# EAGLE library part STM32F405_64 (library Lysenko_Eagle_Lib)
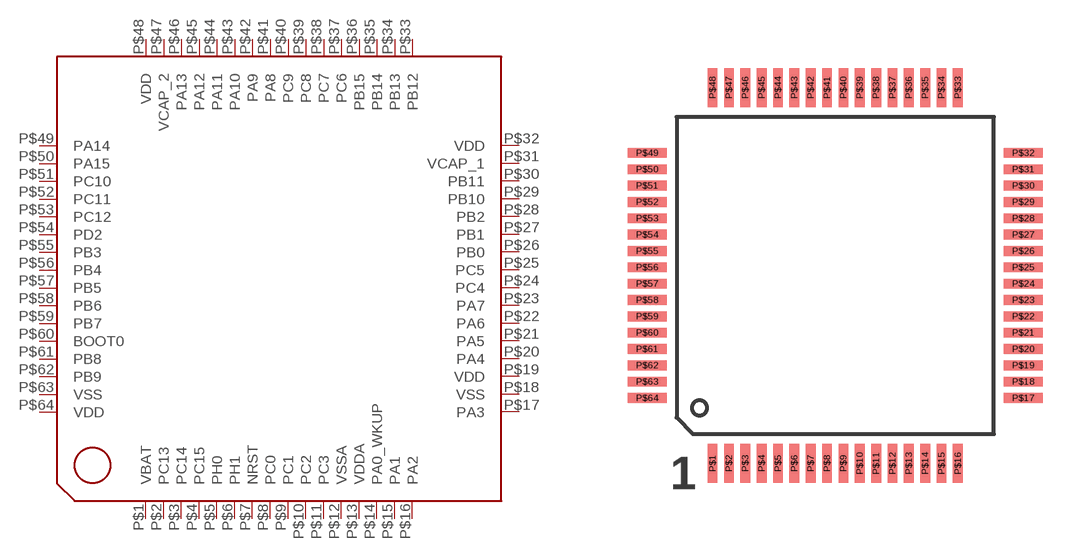
[diagram p30: symbol with the pads of TQFP-64; footprint TQFP-64]

Designator prefix -

## STM32F405_64  [TQFP-64]
P$1  VBAT
P$2  PC13
P$3  PC14
P$4  PC15
P$5  PH0
P$6  PH1
P$7  NRST
P$8  PC0
P$9  PC1
P$10  PC2
P$11  PC3
P$12  VSSA
P$13  VDDA
P$14  PA0_WKUP
P$15  PA1
P$16  PA2
P$17  PA3
P$18  VSS
P$19  VDD
P$20  PA4
P$21  PA5
P$22  PA6
P$23  PA7
P$24  PC4
P$25  PC5
P$26  PB0
P$27  PB1
P$28  PB2
P$29  PB10
P$30  PB11
P$31  VCAP_1
P$32  VDD
P$33  PB12
P$34  PB13
P$35  PB14
P$36  PB15
P$37  PC6
P$38  PC7
P$39  PC8
P$40  PC9
P$41  PA8
P$42  PA9
P$43  PA10
P$44  PA11
P$45  PA12
P$46  PA13
P$47  VCAP_2
P$48  VDD
P$49  PA14
P$50  PA15
P$51  PC10
P$52  PC11
P$53  PC12
P$54  PD2
P$55  PB3
P$56  PB4
P$57  PB5
P$58  PB6
P$59  PB7
P$60  BOOT0
P$61  PB8
P$62  PB9
P$63  VSS
P$64  VDD

## Footprint TQFP-64 (pad centres in mm)
smd 0.3 x 1.2: P$1 0,0; P$2 0.5,0; P$3 1,0; P$4 1.5,0; P$5 2,0; P$6 2.5,0; P$7 3,0; P$8 3.5,0; P$9 4,0; P$10 4.5,0; P$11 5,0; P$12 5.5,0; P$13 6,0; P$14 6.5,0; P$15 7,0; P$16 7.5,0; P$33 7.5,11.5; P$34 7,11.5; P$35 6.5,11.5; P$36 6,11.5; P$37 5.5,11.5; P$38 5,11.5; P$39 4.5,11.5; P$40 4,11.5; P$41 3.5,11.5; P$42 3,11.5; P$43 2.5,11.5; P$44 2,11.5; P$45 1.5,11.5; P$46 1,11.5; P$47 0.5,11.5; P$48 0,11.5
smd 1.2 x 0.3: P$17 9.5,2; P$18 9.5,2.5; P$19 9.5,3; P$20 9.5,3.5; P$21 9.5,4; P$22 9.5,4.5; P$23 9.5,5; P$24 9.5,5.5; P$25 9.5,6; P$26 9.5,6.5; P$27 9.5,7; P$28 9.5,7.5; P$29 9.5,8; P$30 9.5,8.5; P$31 9.5,9; P$32 9.5,9.5; P$49 -2,9.5; P$50 -2,9; P$51 -2,8.5; P$52 -2,8; P$53 -2,7.5; P$54 -2,7; P$55 -2,6.5; P$56 -2,6; P$57 -2,5.5; P$58 -2,5; P$59 -2,4.5; P$60 -2,4; P$61 -2,3.5; P$62 -2,3; P$63 -2,2.5; P$64 -2,2